# Altium footprint library Teensy4.PcbLib: 2 footprints
Each footprint in its own frame and in the unit in brackets; x right, y up, seen from the top. Pads: shape width x height; smd on the part's side, far side on the other; paste and mask are expansions set on the pad; w line width, h text height; cw(c..) or ccw(c..) is an arc to the next point about the centre after c.
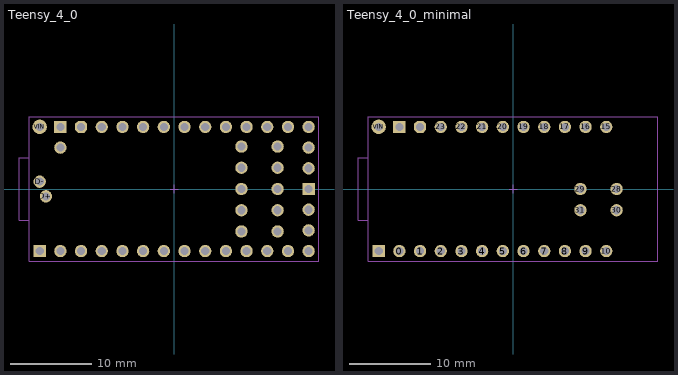
[diagram p0: the footprints below, top view; thin cyan lines are the x and y axes]

## Teensy_4_0 [mm]
height 5
pads (46):
  round 1.508 hole 1: 0-RX1(-13.97,-7.62) 1-TX1(-11.43,-7.62) 2-OUT2(-8.89,-7.62) 3-LRCLK2(-6.35,-7.62) 3V3-2(16.51,-2.54) 4-BCLK2(-3.81,-7.62) 5-IN2(-1.27,-7.62) 6-OUT1D(1.27,-7.62) 7-RX2/OUT1A(3.81,-7.62) 8-TX2/IN1(6.35,-7.62) 9-OUT1C(8.89,-7.62) 10-CS/MQSR(11.43,-7.62) 11-MOSI/CTX1(13.97,-7.62) 12-MIO/MQSL(16.51,-7.62) 13-SCK/CRX1/LED(16.51,7.62) 14-A0/TX3/S-PFI_OUT(13.97,7.62) 15-A1/RX3/S-PDIF_IN(11.43,7.62) 16-A2/RX4/SCL1(8.89,7.62) 17-A3/TX4/SDA1(6.35,7.62) 18-A4/SDA0(3.81,7.62) 19-A5/SCL0(1.27,7.62) 20-A6/TX5/LRCLK1(-1.27,7.62) 21-A7/RX5/BCLK1(-3.81,7.62) 22-A8/CTX1(-6.35,7.62) 23-A9/CRX1/CCLK1(-8.89,7.62) 24-A10/TX6/SCL2(12.7,5.207) 25-A11/SDA2(8.255,5.207) 26-A12/MOSI1(12.7,2.603) 27-A13/SCK1(8.255,2.603) 28-RX7(12.7,0) 29-TX7(8.255,0) 30-CRX3(12.7,-2.603) 31-CTX3(8.255,-2.603) 32-OUTB1(12.7,-5.207) 33-MCLK2(8.255,-5.207) D+(-15.75,-0.9) D-(-16.51,0.9) ON/OFF(16.51,5.08) PROGRAM(16.51,2.54) VBAT(16.51,-5.08) VUSB(-13.97,5.08)
  oct 1.508x1.508 / inner round 1.393 / far side oct 1.508x1.508 hole 1: 3V3-1(-11.43,7.62)
  rect 1.508x1.508 / inner round 1.393 / far side rect 1.508x1.508 hole 1: GND1(-16.51,-7.62) GND2(16.51,0) GND3(-13.97,7.62)
  round 1.778 hole 1: VIN(-16.51,7.62)
Mechanical 10:
  lines w0.1: -17.78,-2.54 -17.78,4.26 ; -0.51,0 0.49,0 ; 0,-0.5 0,-0.2 ; 0,-0.25 0,0.25 ; 0,0.2 0,0.5
  lines w0.15: -17.78,-3.81 -19.05,-3.81 -19.05,3.81 -17.78,3.81 ; -17.78,-8.89 -17.78,8.89 17.78,8.89 17.78,-8.89 -17.78,-8.89
3D body: height 2, standoff 0, extent -17.78,-8.89 17.78,8.89

## Teensy_4_0_minimal [mm]
pads (28):
  round 1.508 hole 1: 0(-13.97,-7.62) 1(-11.43,-7.62) 2(-8.89,-7.62) 3(-6.35,-7.62) 4(-3.81,-7.62) 5(-1.27,-7.62) 6(1.27,-7.62) 7(3.81,-7.62) 8(6.35,-7.62) 9(8.89,-7.62) 10(11.43,-7.62) 15(11.43,7.62) 16(8.89,7.62) 17(6.35,7.62) 18(3.81,7.62) 19(1.27,7.62) 20(-1.27,7.62) 21(-3.81,7.62) 22(-6.35,7.62) 23(-8.89,7.62) 28(12.7,0) 29(8.255,0) 30(12.7,-2.603) 31(8.255,-2.603)
  oct 1.508x1.508 / inner round 1.393 / far side oct 1.508x1.508 hole 1: 3V3(-11.43,7.62)
  rect 1.508x1.508 / inner round 1.393 / far side rect 1.508x1.508 hole 1: GND1(-16.51,-7.62) GND2(-13.97,7.62)
  round 1.778 hole 1: VIN(-16.51,7.62)
Mechanical 10:
  lines w0.1: -17.78,-2.54 -17.78,4.26 ; -0.51,0 0.49,0 ; 0,-0.5 0,-0.2 ; 0,-0.25 0,0.25 ; 0,0.2 0,0.5
  lines w0.15: -17.78,-3.81 -19.05,-3.81 -19.05,3.81 -17.78,3.81 ; -17.78,-8.89 17.78,-8.89 17.78,8.89 -17.78,8.89 -17.78,-8.89
3D body: height 5, standoff 4, extent -17.78,-8.89 17.78,8.89